# Altium schematic symbol library SchLib.SchLib: 5 symbols
Pins are listed as number, name and electrical type; pins without a type are passive.

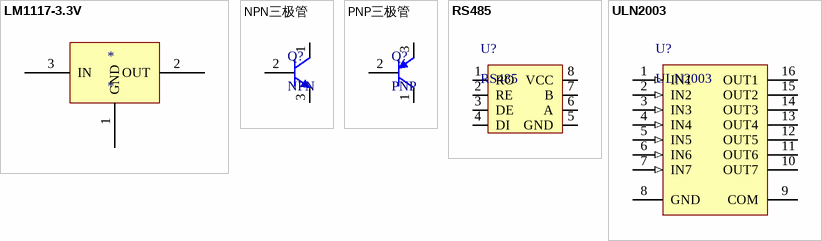
[diagram p0: symbols LM1117-3.3V to ULN2003]

## LM1117-3.3V
designator *
pins: 1 GND (power), 2 OUT (power), 3 IN (power)

## NPN三极管
designator Q?, comment NPN
pins: 1 C, 2 B, 3 E

## PNP三极管
designator Q?, comment PNP
pins: 1 C, 2 B, 3 E

## RS485
designator U?
pins: 1 RO, 2 RE, 3 DE, 4 DI, 5 GND, 6 A, 7 B, 8 VCC

## ULN2003
designator U?
pins: 1 IN1 (in), 2 IN2 (in), 3 IN3 (in), 4 IN4 (in), 5 IN5 (in), 6 IN6 (in), 7 IN7 (in), 8 GND (power), 9 COM, 10 OUT7 (oc), 11 OUT6 (oc), 12 OUT5 (oc), 13 OUT4 (oc), 14 OUT3 (oc), 15 OUT2 (oc), 16 OUT1 (oc)